# Altium schematic symbol library pidbot.SCHLIB: 28 symbols
Pins are listed as number, name and electrical type; pins without a type are passive.

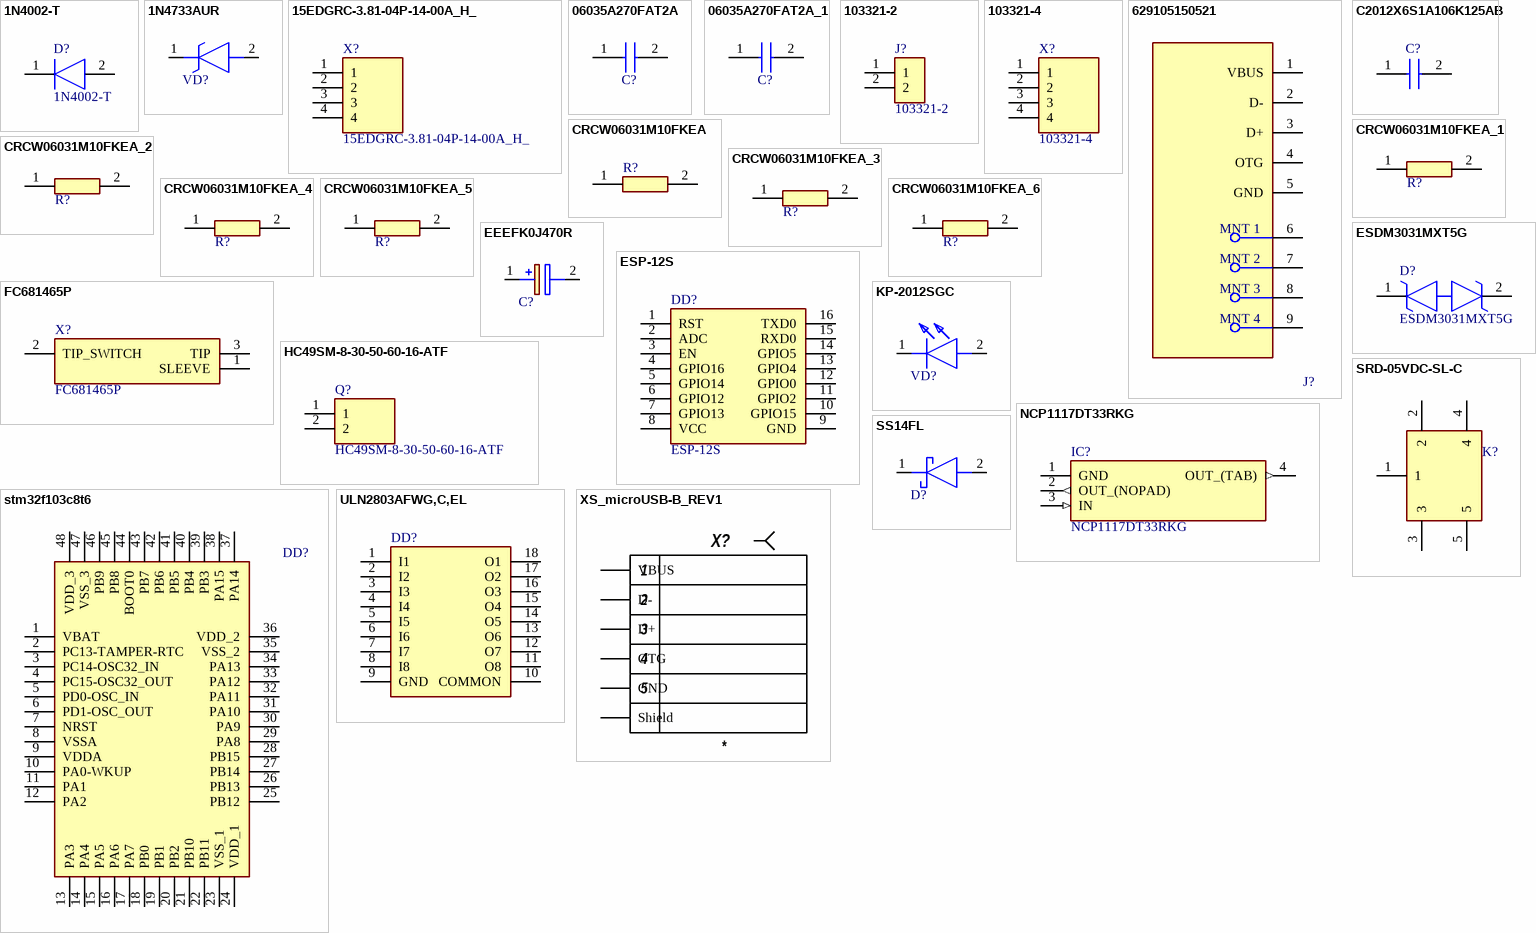
[diagram p0: symbols 1N4002-T to XS_microUSB-B_REV1]

## 1N4002-T
designator D?
Diode; Manufacturer_Name: Diodes Inc.; Datasheet Link: http://www.diodes.com/_files/datasheets/ds28002.pdf; Manufacturer_Part_Number: 1N4002-T; Mouser Part Number: 621-1N4002-T; Mouser Price/Stock: https://www.mouser.co.uk/ProductDetail/Diodes-Incorporated/1N4002-T/?qs=rGAXPo9uwV21tVJRR%252BhxrQ%3D%3D; Arrow Part Number: 1N4002-T; Arrow Price/Stock: https://www.arrow.com/en/products/1n4002-t/diodes-incorporated
footprint DIOAD1408W86L464D236
pins: 1 K, 2 A

## 1N4733AUR
designator VD?  (value not drawn)
Zener Diode; Manufacturer_Name: Microsemi Corporation; Datasheet Link: https://www.microsemi.com/document-portal/doc_download/11016-sd12a-datasheet; Manufacturer_Part_Number: 1N4733AUR; Mouser Part Number: 494-1N4733AUR; Mouser Price/Stock: https://www.mouser.com/Search/Refine.aspx?Keyword=494-1N4733AUR
footprint DO-213AB
pins: 1 K, 2 A

## 15EDGRC-3.81-04P-14-00A_H_
designator X?
Connector; Manufacturer_Name: Degson; Manufacturer_Part_Number: 15EDGRC-3.81-04P-14-00A(H); Datasheet Link: https://datasheet.octopart.com/15EDGRC-3.81-04P-14-00A%28H%29-Degson-datasheet-17801160.pdf; Height: 7.54mm
footprint SHDRRA4W80P0X381_1X4_1603X920X754P
pins: 1, 2, 3, 4

## 06035A270FAT2A
designator C?, comment 27pF(0603)  (value not drawn)
Capacitor; Manufacturer_Name: AVX; Manufacturer_Part_Number: 06035A270FAT2A; Datasheet Link: https://componentsearchengine.com/Datasheets/1/06031A100FAT2A.pdf; Height: 0.9mm; Mouser Part Number: 581-06035A270FAT2A; Mouser Price/Stock: http://www.mouser.com/Search/ProductDetail.aspx?qs=pLllxMKqYOUE57iRl783tA%3d%3d
footprint CAPC1608X90N
pins: 1, 2

## 06035A270FAT2A_1
designator C?, comment 0.1uF(0603)  (value not drawn)
Capacitor; Manufacturer_Name: AVX; Manufacturer_Part_Number: 06035A270FAT2A; Datasheet Link: https://componentsearchengine.com/Datasheets/1/06031A100FAT2A.pdf; Height: 0.9mm; Mouser Part Number: 581-06035A270FAT2A; Mouser Price/Stock: http://www.mouser.com/Search/ProductDetail.aspx?qs=pLllxMKqYOUE57iRl783tA%3d%3d
footprint CAPC1608X90N
pins: 1, 2

## 103321-2
designator J?
Connector; Manufacturer_Name: TE Connectivity; Manufacturer_Part_Number: 103321-4; Datasheet Link: https://www.mouser.com/datasheet/2/418/NG_CD_103321_R_baseFilename-1229694.pdf; Height: 10.363mm; Mouser Part Number: 571-1033214; Mouser Price/Stock: https://www.mouser.co.uk/ProductDetail/TE-Connectivity-AMP/103321-4?qs=HSGlLeu24BNC%2F8%2Fb5G2HmQ%3D%3D; Arrow Part Number: 103321-4; Arrow Price/Stock: https://www.arrow.com/en/products/103321-4/te-connectivity
footprint HDRV4W66P0X254_1X2_975X234X1036P
pins: 1, 2

## 103321-4
designator X?
Connector; Manufacturer_Name: TE Connectivity; Datasheet Link: https://www.mouser.com/datasheet/2/418/NG_CD_103321_R_baseFilename-1229694.pdf; Height: 10.363mm; Manufacturer_Part_Number: 103321-4; Mouser Part Number: 571-1033214; Mouser Price/Stock: https://www.mouser.co.uk/ProductDetail/TE-Connectivity-AMP/103321-4?qs=HSGlLeu24BNC%2F8%2Fb5G2HmQ%3D%3D; Arrow Part Number: 103321-4; Arrow Price/Stock: https://www.arrow.com/en/products/103321-4/te-connectivity
footprint HDRV4W66P0X254_1X4_975X234X1036P
pins: 1, 2, 3, 4

## 629105150521
designator J?  (value not drawn)
footprint Wurth_0_MFG
pins: 1 VBUS, 2 D-, 3 D+, 4 OTG, 5 GND, 6 MNT 1, 7 MNT 2, 8 MNT 3, 9 MNT 4

## C2012X6S1A106K125AB
designator C?, comment 10uF(0805)  (value not drawn)
Capacitor; Manufacturer_Name: TDK; Manufacturer_Part_Number: C2012X6S1A106K125AB; Datasheet Link: https://product.tdk.com/info/en/catalog/datasheets/mlcc_commercial_midvoltage_en.pdf; Height: 1.45mm; Mouser Part Number: 810-C2012X6S1A106K1B; Mouser Price/Stock: https://www.mouser.com/Search/Refine.aspx?Keyword=810-C2012X6S1A106K1B
footprint CAPC2012X145N
pins: 1, 2

## CRCW06031M10FKEA
designator R?, comment 1M(0603)  (value not drawn)
Resistor; Manufacturer_Name: Vishay; Manufacturer_Part_Number: CRCW06031M10FKEA; Datasheet Link: http://www.vishay.com/docs/20035/dcrcwe3.pdf; Height: 0.5mm; Mouser Part Number: 71-CRCW06031M10FKEA; Mouser Price/Stock: https://www.mouser.co.uk/ProductDetail/Vishay-Dale/CRCW06031M10FKEA?qs=dFaIlcvhQOTbdXNp0izuyw%3D%3D; Arrow Part Number: CRCW06031M10FKEA; Arrow Price/Stock: https://www.arrow.com/en/products/crcw06031m10fkea/vishay
footprint RESC1608X50N
pins: 1, 2

## CRCW06031M10FKEA_1
designator R?, comment 330(0603)  (value not drawn)
Resistor; Manufacturer_Name: Vishay; Manufacturer_Part_Number: CRCW06031M10FKEA; Datasheet Link: http://www.vishay.com/docs/20035/dcrcwe3.pdf; Height: 0.5mm; Mouser Part Number: 71-CRCW06031M10FKEA; Mouser Price/Stock: https://www.mouser.co.uk/ProductDetail/Vishay-Dale/CRCW06031M10FKEA?qs=dFaIlcvhQOTbdXNp0izuyw%3D%3D; Arrow Part Number: CRCW06031M10FKEA; Arrow Price/Stock: https://www.arrow.com/en/products/crcw06031m10fkea/vishay
footprint RESC1608X50N
pins: 1, 2

## CRCW06031M10FKEA_2
designator R?, comment 10K(0603)  (value not drawn)
Resistor; Manufacturer_Name: Vishay; Manufacturer_Part_Number: CRCW06031M10FKEA; Datasheet Link: http://www.vishay.com/docs/20035/dcrcwe3.pdf; Height: 0.5mm; Mouser Part Number: 71-CRCW06031M10FKEA; Mouser Price/Stock: https://www.mouser.co.uk/ProductDetail/Vishay-Dale/CRCW06031M10FKEA?qs=dFaIlcvhQOTbdXNp0izuyw%3D%3D; Arrow Part Number: CRCW06031M10FKEA; Arrow Price/Stock: https://www.arrow.com/en/products/crcw06031m10fkea/vishay
footprint RESC1608X50N
pins: 1, 2

## CRCW06031M10FKEA_3
designator R?, comment 1K(0603)  (value not drawn)
Resistor; Manufacturer_Name: Vishay; Manufacturer_Part_Number: CRCW06031M10FKEA; Datasheet Link: http://www.vishay.com/docs/20035/dcrcwe3.pdf; Height: 0.5mm; Mouser Part Number: 71-CRCW06031M10FKEA; Mouser Price/Stock: https://www.mouser.co.uk/ProductDetail/Vishay-Dale/CRCW06031M10FKEA?qs=dFaIlcvhQOTbdXNp0izuyw%3D%3D; Arrow Part Number: CRCW06031M10FKEA; Arrow Price/Stock: https://www.arrow.com/en/products/crcw06031m10fkea/vishay
footprint RESC1608X50N
pins: 1, 2

## CRCW06031M10FKEA_4
designator R?, comment 22(0603)  (value not drawn)
Resistor; Manufacturer_Name: Vishay; Manufacturer_Part_Number: CRCW06031M10FKEA; Datasheet Link: http://www.vishay.com/docs/20035/dcrcwe3.pdf; Height: 0.5mm; Mouser Part Number: 71-CRCW06031M10FKEA; Mouser Price/Stock: https://www.mouser.co.uk/ProductDetail/Vishay-Dale/CRCW06031M10FKEA?qs=dFaIlcvhQOTbdXNp0izuyw%3D%3D; Arrow Part Number: CRCW06031M10FKEA; Arrow Price/Stock: https://www.arrow.com/en/products/crcw06031m10fkea/vishay
footprint RESC1608X50N
pins: 1, 2

## CRCW06031M10FKEA_5
designator R?, comment 1500(0603)  (value not drawn)
Resistor; Manufacturer_Name: Vishay; Manufacturer_Part_Number: CRCW06031M10FKEA; Datasheet Link: http://www.vishay.com/docs/20035/dcrcwe3.pdf; Height: 0.5mm; Mouser Part Number: 71-CRCW06031M10FKEA; Mouser Price/Stock: https://www.mouser.co.uk/ProductDetail/Vishay-Dale/CRCW06031M10FKEA?qs=dFaIlcvhQOTbdXNp0izuyw%3D%3D; Arrow Part Number: CRCW06031M10FKEA; Arrow Price/Stock: https://www.arrow.com/en/products/crcw06031m10fkea/vishay
footprint RESC1608X50N
pins: 1, 2

## CRCW06031M10FKEA_6
designator R?, comment 470(0603)  (value not drawn)
Resistor; Manufacturer_Name: Vishay; Manufacturer_Part_Number: CRCW06031M10FKEA; Datasheet Link: http://www.vishay.com/docs/20035/dcrcwe3.pdf; Height: 0.5mm; Mouser Part Number: 71-CRCW06031M10FKEA; Mouser Price/Stock: https://www.mouser.co.uk/ProductDetail/Vishay-Dale/CRCW06031M10FKEA?qs=dFaIlcvhQOTbdXNp0izuyw%3D%3D; Arrow Part Number: CRCW06031M10FKEA; Arrow Price/Stock: https://www.arrow.com/en/products/crcw06031m10fkea/vishay
footprint RESC1608X50N
pins: 1, 2

## EEEFK0J470R
designator C?, comment 470uF(CPOL)  (value not drawn)
Capacitor Polarised; Manufacturer_Name: Panasonic; Manufacturer_Part_Number: EEEFK0J470R; Datasheet Link: https://industrial.panasonic.com/cdbs/www-data/pdf/RDE0000/ABA0000C1181.pdf; Height: 6.1mm
footprint CAPAE530X610N
pins: 1 +, 2 -

## ESDM3031MXT5G
designator D?
TVS Diode (Bi-directional); Manufacturer_Name: ON Semiconductor; Datasheet Link: http://www.onsemi.com/pub/Collateral/ESD8011-D.PDF; Height: 0.33mm; Manufacturer_Part_Number: ESDM3031MXT5G; Mouser Part Number: 863-ESDM3031MXT5G; Mouser Price/Stock: https://www.mouser.co.uk/ProductDetail/ON-Semiconductor/ESDM3031MXT5G?qs=u4fy%2FsgLU9PdquU3bippPA%3D%3D; Arrow Part Number: ESDM3031MXT5G; Arrow Price/Stock: https://www.arrow.com/en/products/esdm3031mxt5g/on-semiconductor
footprint ESD8011MUT5G
pins: 1, 2

## ESP-12S
designator DD?
Integrated Circuit; Manufacturer_Name: RF SOLUTIONS; Datasheet Link: https://www.rfsolutions.co.uk/downloads/1594041895DS-ESP-12S-1.pdf; Height: 3mm; Manufacturer_Part_Number: ESP-12S; Mouser Part Number: 223-ESP-12S; Mouser Price/Stock: https://www.mouser.co.uk/ProductDetail/RF-Solutions/ESP-12S/?qs=UkDUCjYnTB27YArJ5wHUxg%3D%3D
footprint ESP12S
pins: 1 RST, 2 ADC, 3 EN, 4 GPIO16, 5 GPIO14, 6 GPIO12, 7 GPIO13, 8 VCC, 9 GND, 10 GPIO15, 11 GPIO2, 12 GPIO0, 13 GPIO4, 14 GPIO5, 15 RXD0, 16 TXD0

## FC681465P
designator X?
Connector; Manufacturer_Name: CLIFF ELECTRONIC COMPONENTS; Datasheet Link: http://www.farnell.com/datasheets/2286781.pdf; Height: 11mm; Manufacturer_Part_Number: FC681465P
footprint FC681465P
pins: 1 SLEEVE, 2 TIP_SWITCH, 3 TIP

## HC49SM-8-30-50-60-16-ATF
designator Q?
Crystal or Oscillator; Manufacturer_Name: MULTICOMP; Datasheet Link: http://www.farnell.com/datasheets/1661828.pdf; Height: 4mm; Manufacturer_Part_Number: HC49SM-8-30-50-60-16-ATF
footprint HC49SM830506016ATF
pins: 1, 2

## KP-2012SGC
designator VD?  (value not drawn)
LED; Manufacturer_Name: Kingbright; Datasheet Link: http://my.rs-online.com/webdocs/032f/0900766b8032fa8b.pdf; Height: 1.1mm; Manufacturer_Part_Number: KP-2012SGC; Mouser Part Number: N/A; Mouser Price/Stock: https://www.mouser.co.uk/ProductDetail/Kingbright/KP-2012SGC?qs=2JU0tDl2GZ0tniaU1HaSiA%3D%3D; Arrow Part Number: KP-2012SGC; Arrow Price/Stock: https://www.arrow.com/en/products/kp-2012sgc/kingbright
footprint LEDC2012X110N
pins: 1 K, 2 A

## NCP1117DT33RKG
designator IC?
Integrated Circuit; Manufacturer_Name: ON Semiconductor; Datasheet Link: http://www.onsemi.com/pub/Collateral/NCP1117-D.PDF; Height: 2.38mm; Manufacturer_Part_Number: NCP1117DT33RKG; Mouser Part Number: 863-NCP1117DT33RKG; Mouser Price/Stock: https://www.mouser.co.uk/ProductDetail/ON-Semiconductor/NCP1117DT33RKG/?qs=Gev%252BmEvV0ibOCOlPKZVI0Q%3D%3D; Arrow Part Number: NCP1117DT33RKG; Arrow Price/Stock: https://www.arrow.com/en/products/ncp1117dt33rkg/on-semiconductor
footprint TO229P990X238-4N
pins: 1 GND (power), 2 OUT_(NOPAD) (out), 3 IN (in), 4 OUT_(TAB) (out)

## SRD-05VDC-SL-C
designator K?  (value not drawn)
Relay or Contactor; Manufacturer_Name: Songle Relay; Datasheet Link: http://files.microjpm.webnode.com/200001010-dda41de9e1/Songle%20Relay%20Datasheet.pdf; Manufacturer_Part_Number: SRD-05VDC-SL-C
footprint SRD
pins: 1, 2, 3, 4, 5

## SS14FL
designator D?  (value not drawn)
Schottky Diode; Manufacturer_Name: ON Semiconductor; Datasheet Link: http://www.onsemi.com/pub/Collateral/SS14FL-D.PDF; Height: 1.08mm; Manufacturer_Part_Number: SS14FL; Mouser Part Number: 512-SS14FL; Mouser Price/Stock: https://www.mouser.co.uk/ProductDetail/ON-Semiconductor-Fairchild/SS14FL?qs=tqW9UTzndZz8XxVZxr%252BlfQ%3D%3D; Arrow Part Number: SS14FL; Arrow Price/Stock: https://www.arrow.com/en/products/ss14fl/on-semiconductor
footprint SODFL3617X108N
pins: 1 K, 2 A

## stm32f103c8t6
designator DD?  (value not drawn)
Integrated Circuit; Manufacturer_Name: STMicroelectronics; Datasheet Link: https://www.st.com/resource/en/datasheet/stm32f103c8.pdf; Height: 1.6mm; Manufacturer_Part_Number: stm32f103c8t6; Mouser Part Number: 511-STM32F103C8T6; Mouser Price/Stock: https://www.mouser.co.uk/ProductDetail/STMicroelectronics/STM32F103C8T6/?qs=bhCVus9SdFtq6kqxsU5%2FDA%3D%3D; Arrow Part Number: STM32F103C8T6; Arrow Price/Stock: https://www.arrow.com/en/products/stm32f103c8t6/stmicroelectronics
footprint QFP50P900X900X160-48N
pins: 1 VBAT, 2 PC13-TAMPER-RTC, 3 PC14-OSC32_IN, 4 PC15-OSC32_OUT, 5 PD0-OSC_IN, 6 PD1-OSC_OUT, 7 NRST, 8 VSSA, 9 VDDA, 10 PA0-WKUP, 11 PA1, 12 PA2, 13 PA3, 14 PA4, 15 PA5, 16 PA6, 17 PA7, 18 PB0, 19 PB1, 20 PB2, 21 PB10, 22 PB11, 23 VSS_1, 24 VDD_1, 25 PB12, 26 PB13, 27 PB14, 28 PB15, 29 PA8, 30 PA9, 31 PA10, 32 PA11, 33 PA12, 34 PA13, 35 VSS_2, 36 VDD_2, 37 PA14, 38 PA15, 39 PB3, 40 PB4, 41 PB5, 42 PB6, 43 PB7, 44 BOOT0, 45 PB8, 46 PB9, 47 VSS_3, 48 VDD_3

## ULN2803AFWG,C,EL
designator DD?  (value not drawn)
Integrated Circuit; Manufacturer_Name: Toshiba; Datasheet Link: http://toshiba.semicon-storage.com/info/docget.jsp?did=7064&prodName=ULN2803AFWG; Height: 2.85mm; Manufacturer_Part_Number: ULN2803AFWG,C,EL; Mouser Part Number: N/A; Mouser Price/Stock: https://www.mouser.co.uk/ProductDetail/Toshiba/ULN2803AFWGCEL?qs=vPP9GyyTAo2p%2FYO7mXoxbQ%3D%3D; Arrow Part Number: ULN2803AFWG,C,EL; Arrow Price/Stock: https://www.arrow.com/en/products/uln2803afwgcel/toshiba
footprint SOIC127P1032X285-18N
pins: 1 I1, 2 I2, 3 I3, 4 I4, 5 I5, 6 I6, 7 I7, 8 I8, 9 GND, 10 COMMON, 11 O8, 12 O7, 13 O6, 14 O5, 15 O4, 16 O3, 17 O2, 18 O1

## XS_microUSB-B_REV1
designator X?
PartNumber: *
pins: 1 VBUS, 2 D-, 3 D+, 4 OTG, 5 GND, Shield